# EAGLE library part BQ76930 (library BQ769x0)
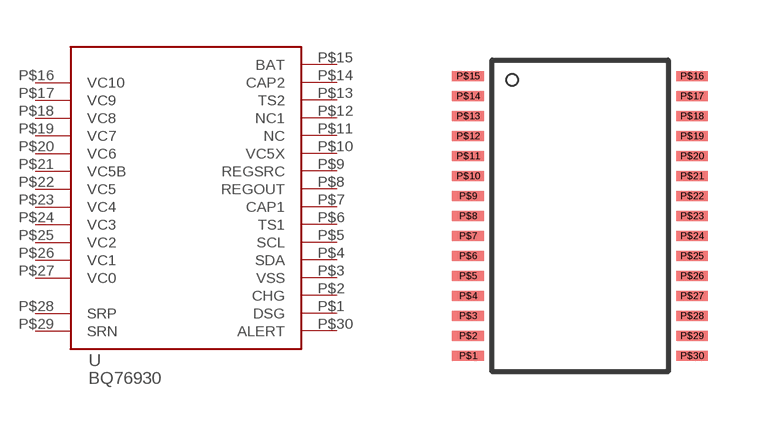
[diagram p2: symbol with the pads of TSSOP30; footprint TSSOP30]

Designator prefix -

## BQ76930  [TSSOP30]
P$1  DSG
P$2  CHG
P$3  VSS
P$4  SDA
P$5  SCL
P$6  TS1
P$7  CAP1
P$8  REGOUT
P$9  REGSRC
P$10  VC5X
P$11  NC
P$12  NC1
P$13  TS2
P$14  CAP2
P$15  BAT
P$16  VC10
P$17  VC9
P$18  VC8
P$19  VC7
P$20  VC6
P$21  VC5B
P$22  VC5
P$23  VC4
P$24  VC3
P$25  VC2
P$26  VC1
P$27  VC0
P$28  SRP
P$29  SRN
P$30  ALERT

## Footprint TSSOP30 (pad centres in mm)
smd 0.8 x 0.25: P$1 -2.8,-3.5; P$2 -2.8,-3; P$3 -2.8,-2.5; P$4 -2.8,-2; P$5 -2.8,-1.5; P$6 -2.8,-1; P$7 -2.8,-0.5; P$8 -2.8,0; P$9 -2.8,0.5; P$10 -2.8,1; P$11 -2.8,1.5; P$12 -2.8,2; P$13 -2.8,2.5; P$14 -2.8,3; P$15 -2.8,3.5; P$16 2.8,3.5; P$17 2.8,3; P$18 2.8,2.5; P$19 2.8,2; P$20 2.8,1.5; P$21 2.8,1; P$22 2.8,0.5; P$23 2.8,0; P$24 2.8,-0.5; P$25 2.8,-1; P$26 2.8,-1.5; P$27 2.8,-2; P$28 2.8,-2.5; P$29 2.8,-3; P$30 2.8,-3.5